# Altium footprint library Optoelectronics.PcbLib: 10 footprints
Each footprint in its own frame and in the unit in brackets; x right, y up, seen from the top. Pads: shape width x height; smd on the part's side, far side on the other; paste and mask are expansions set on the pad; w line width, h text height; cw(c..) or ccw(c..) is an arc to the next point about the centre after c.
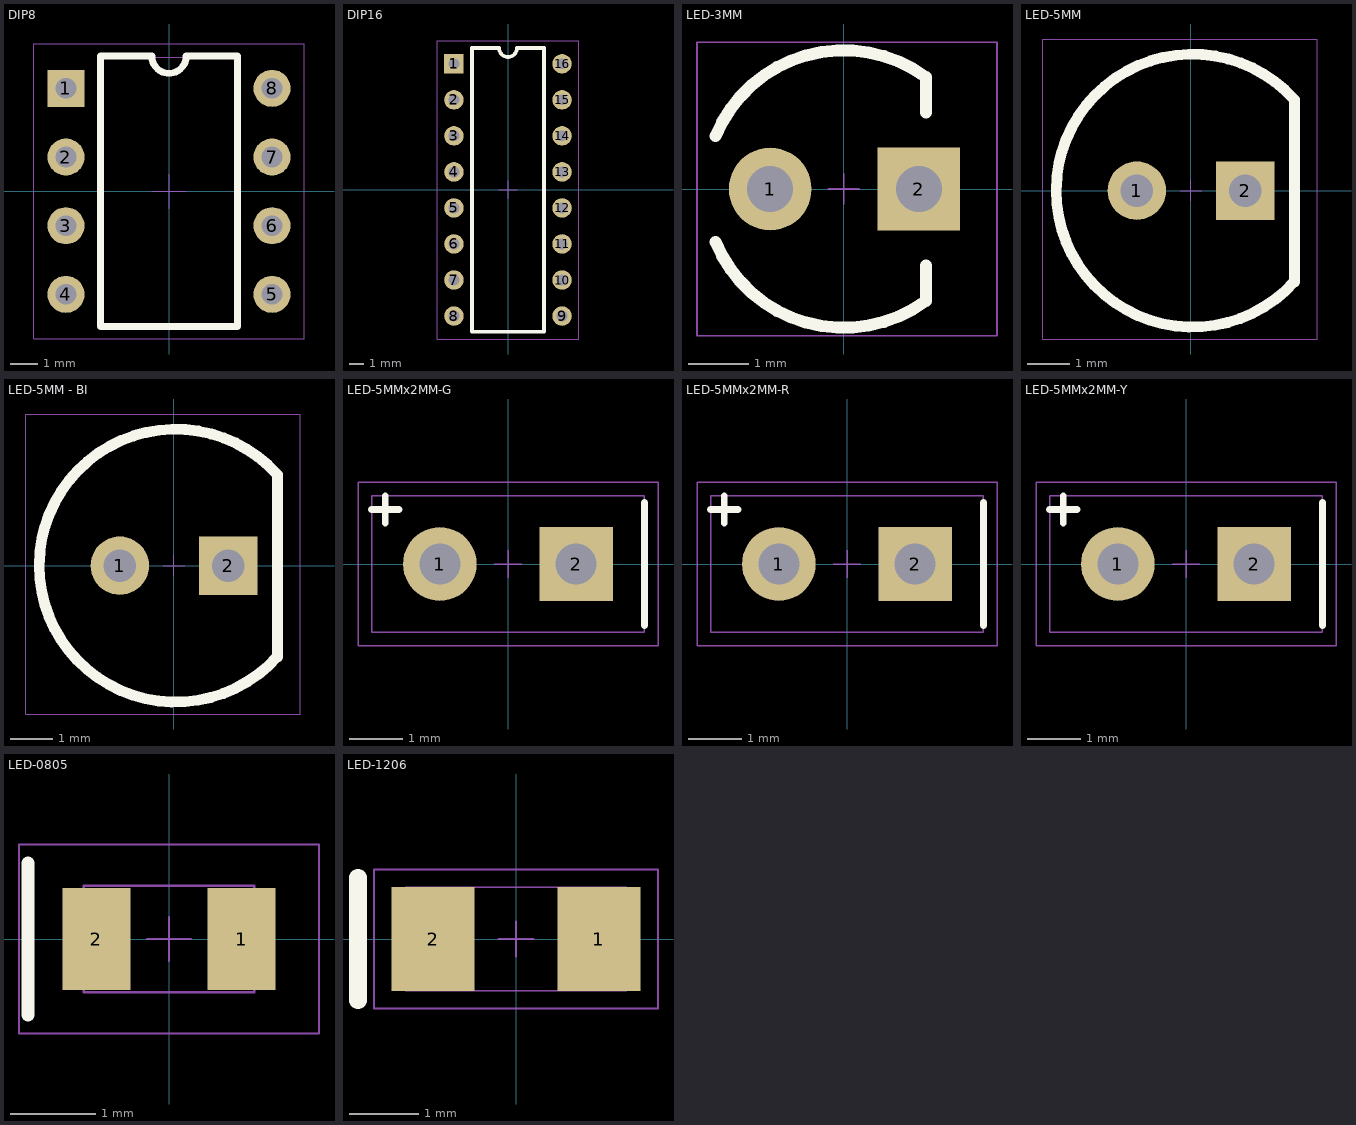
[diagram p0: the footprints below, top view; thin cyan lines are the x and y axes]

## DIP8 [mil]
pads (8):
  rect 54x54 hole 30: 1(-150,150)
  round 54 hole 30: 2(-150,50) 3(-150,-50) 4(-150,-150) 5(150,-150) 6(150,-50) 7(150,50) 8(150,150)
Top Overlay:
  lines w10: -100,-196.85 100,-196.85 100,196.85 25,196.85 cw(c0,196.85) -25,196.85 -100,196.85 -100,-196.85
Top Courtyard:
  lines w1: -197,-215 -197,215 197,215 197,-215 -197,-215
Top Assembly (Mech8):
  lines w1: -25,0 25,0 ; 0,-25 0,25 ; -100,-195 -100,195 100,195 100,-195 -100,-195
3D body "TLP521-2.STEP": height 190.94, standoff -98.66, extent -154.92,-190.16 154.92,190.16

## DIP16 [mil]
pads (16):
  rect 54x54 hole 30: 1(-150,350)
  round 54 hole 30: 2(-150,250) 3(-150,150) 4(-150,50) 5(-150,-50) 6(-150,-150) 7(-150,-250) 8(-150,-350) 9(150,-350) 10(150,-250) 11(150,-150) 12(150,-50) 13(150,50) 14(150,150) 15(150,250) 16(150,350)
Top Overlay:
  lines w10: -100,-393.7 100,-393.7 100,393.7 25,393.7 cw(c0,393.7) -25,393.7 -100,393.7 -100,-393.7
Top Courtyard:
  lines w1: -197,-413.7 -197,413.7 197,413.7 197,-413.7 -197,-413.7
Top Assembly (Mech8):
  lines w1: -25,0 25,0 ; 0,-25 0,25
3D body "DIP16.step": height 78.03, standoff -220, extent -153,-393.7 156.84,393.7

## LED-3MM [mil]
pads (2):
  round 54 hole 30: 1(-48,0)
  rect 54x54 hole 30: 2(49,0)
Top Overlay:
  lines w7.87: -83.73,-34.48 ccw(c0,0) 53.55,-73.02 53.55,-50 ; -83.73,34.48 cw(c0,0) 53.55,73.02 53.55,50
Top Courtyard:
  lines w1: -95.79,-95.72 -95.79,95.72 100,95.72 100,-95.72 -95.79,-95.72
Top Assembly (Mech8):
  lines w1: -10,0 10,0 ; 0,-10 0,10
3D body "User Library-LED 3mm Red 6mm Leads.STEP": height 271.26, standoff -117.72, extent -75.79,-75.72 61.81,75.72

## LED-5MM [mil]
pads (2):
  round 54 hole 30: 1(-50,0)
  rect 54x54 hole 30: 2(50,0)
Top Overlay:
  lines w10: 95.26,-84.23 cw(c1.57,0) 95.56,83.89 95.56,-84.23
Top Courtyard:
  lines w1: -136.69,-136.99 -136.69,140 116.69,140 116.69,-136.99 -136.69,-136.99
Top Assembly (Mech8):
  lines w1: -10,0 10,0 ; 0,-10 0,10
3D body "SW3dPS-LEDd5R.STEP": height 484.51, standoff -97.93, extent -116.69,-116.99 96.69,120

## LED-5MM - BI [mil]
pads (2):
  round 54 hole 30: 1(-50,0)
  rect 54x54 hole 30: 2(50,0)
Top Overlay:
  lines w10: 95.26,-84.23 cw(c1.57,0) 95.56,83.89 95.56,-84.23
Top Courtyard:
  lines w1: -136.69,-136.99 116.69,-136.99 116.69,140 -136.69,140 -136.69,-136.99
Top Assembly (Mech8):
  lines w1: -10,0 10,0 ; 0,-10 0,10
3D body "151054RS03000--3DModel-STEP-56544.STEP": height 476.38, standoff -921.26, extent -114.17,-114.17 98.82,114.17

## LED-5MMx2MM-G [mil]
pads (2):
  round 54 hole 30: 1(-50,0)
  rect 54x54 hole 30: 2(50,0)
Top Overlay:
  lines w5: -100,40 -80,40 ; -90,30 -90,50 ; 100,-45 100,45
Top Courtyard:
  lines w1: -110,-60 110,-60 110,60 -110,60 -110,-60
Top Assembly (Mech8):
  lines w1: -10,0 10,0 ; 0,-10 0,10 ; -100,-50 -100,50 100,50 100,-50 -100,-50
3D body "XSxx18.step": height 277.8, standoff -1060.79, extent -98.43,-39.37 98.43,39.37

## LED-5MMx2MM-R [mil]
pads (2):
  round 54 hole 30: 1(-50,0)
  rect 54x54 hole 30: 2(50,0)
Top Overlay:
  lines w5: -100,40 -80,40 ; -90,30 -90,50 ; 100,-45 100,45
Top Courtyard:
  lines w1: -110,-60 110,-60 110,60 -110,60 -110,-60
Top Assembly (Mech8):
  lines w1: -10,0 10,0 ; 0,-10 0,10 ; -100,-50 -100,50 100,50 100,-50 -100,-50
3D body "XSxx18.step": height 277.8, standoff -1060.79, extent -98.43,-39.37 98.43,39.37

## LED-5MMx2MM-Y [mil]
pads (2):
  round 54 hole 30: 1(-50,0)
  rect 54x54 hole 30: 2(50,0)
Top Overlay:
  lines w5: -100,40 -80,40 ; -90,30 -90,50 ; 100,-45 100,45
Top Courtyard:
  lines w1: -110,-60 110,-60 110,60 -110,60 -110,-60
Top Assembly (Mech8):
  lines w1: -10,0 10,0 ; 0,-10 0,10 ; -100,-50 -100,50 100,50 100,-50 -100,-50
3D body "XSxx18.step": height 277.8, standoff -1060.79, extent -98.43,-39.37 98.43,39.37

## LED-0805 [mm]
pads (2):
  rect 0.8x1.2 smd: 1(0.85,0) 2(-0.85,0)
Top Overlay:
  lines w0.152: -1.651,-0.889 -1.651,0.889
Top Courtyard:
  lines w0.025: -1.758,-1.108 1.758,-1.108 1.758,1.108 -1.758,1.108 -1.758,-1.108
Top Assembly (Mech8):
  lines w0.025: -0.254,0 0.254,0 ; 0,-0.254 0,0.254 ; -1,-0.625 1,-0.625 1,0.625 -1,0.625 -1,-0.625
3D body "XZMG54W-1--3DModel-STEP-269445.STEP": height 0.75, standoff 0, extent -1,-0.625 1,0.625

## LED-1206 [mm]
pads (2):
  rect 1.2x1.5 smd: 1(1.2,0) 2(-1.2,0)
Top Overlay:
  lines w0.254: -2.286,-0.889 -2.286,0.889
Top Courtyard:
  lines w0.025: -2.054,-1.004 -2.054,1.004 2.054,1.004 2.054,-1.004 -2.054,-1.004
Top Assembly (Mech8):
  lines w0.025: -0.254,0 0.254,0 ; 0,-0.254 0,0.254 ; -1.6,-0.75 -1.6,0.75 1.6,0.75 1.6,-0.75 -1.6,-0.75
3D body "XZxx60.step": height 1.15, standoff -0.25, extent -1.5,-0.75 1.5,0.75